# EAGLE library part HDC1080DMBR (library HDC1080DMBR)
HDC1080 Low Power, High Accuracy Digital Humidity Sensor with Temperature Sensor Source: Datasheet <http://www.ti.com/lit/gpn/HDC1080>
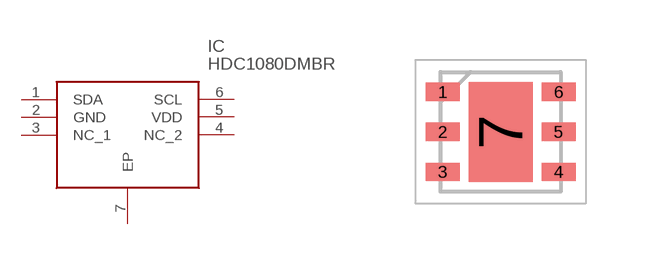
[diagram p0: symbol with the pads of SON100P300X300X80-7N; footprint SON100P300X300X80-7N]

Designator prefix IC

## HDC1080DMBR (Description: HDC1080 Low Power, High Accuracy Digital Humidity Sensor with Temperature Sensor; Height: 0.8mm; Manufacturer_Name: Texas Instruments; Manufacturer_Part_Number: HDC1080DMBR; Mouser_Part_Number: 595-HDC1080DMBR; Mouser_Price-Stock: https://www.mouser.co.uk/ProductDetail/Texas-Instruments/HDC1080DMBR?qs=8%2FmU9qzJpL9OuhPLRSO9Vg%3D%3D)  [SON100P300X300X80-7N]
1  SDA
2  GND
3  NC_1
4  NC_2
5  VDD
6  SCL
7  EP

## Footprint SON100P300X300X80-7N (pad centres in mm)
HDC1080DMBR
smd 0.85 x 0.45: 1 -1.45,1; 2 -1.45,0; 3 -1.45,-1; 4 1.45,-1; 5 1.45,0; 6 1.45,1
smd 1.6 x 2.5: 7 0,0